# Altium footprint library SOT-143.PcbLib: 1 footprints
Each footprint in its own frame and in the unit in brackets; x right, y up, seen from the top. Pads: shape width x height; smd on the part's side, far side on the other; paste and mask are expansions set on the pad; w line width, h text height; cw(c..) or ccw(c..) is an arc to the next point about the centre after c.
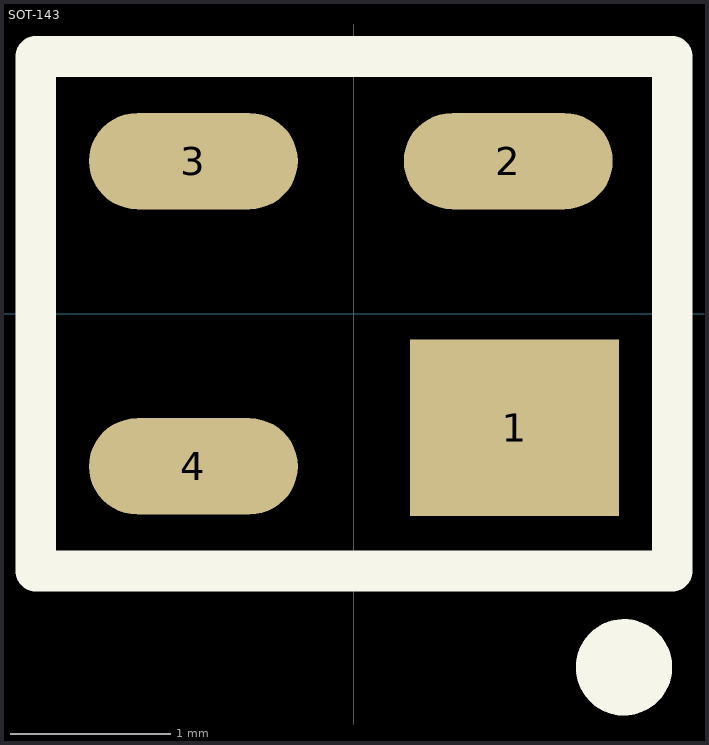
[diagram p0: the footprint, top view; thin cyan lines are the x and y axes]

## SOT-143 [mm]
pads (4):
  rect 1.3x1.1 smd: 1(1,-0.71)
  oval 1.3x0.6 smd: 2(0.96,0.95) 3(-1,0.95) 4(-1,-0.95)
Top Overlay:
  circle w0.3: c1.68,-2.2 r0.15
  lines w0.254: -1.98,-1.6 -1.98,1.6 1.98,1.6 1.98,-1.6 -1.98,-1.6
3D body: height 1, standoff 0, extent -1.23,-1.46 1.19,1.46